# EAGLE library part STM32F103RBT6 (library microcontrollers)
STM32F103RB ARM CortexM-3 MCU, 256-KB Flash, timers, ADC, DAC and communication interfaces, 2.0-3.6 V PatternAgents ST Microelectronics Component Library Source LBR : http://www.patternagents.com Github : https://github.com/patternagents License : http://creativecommons.org/licenses/by-sa/4.0/ (Creative Commons 4.0) THIS SOFTWARE IS PROVIDED BY THE CONTRIBUTORS "AS IS" AND WITHOUT ANY EXPRESS OR IMPLIED WARRANTIES, INCLUDING, BUT NOT LIMITED TO, THE IMPLIED WARRANTIES OF MERCHANTABILITY AND FITNESS FOR A PARTICULAR PURPOSE ARE DISCLAIMED. IN NO EVENT SHALL THE COPYRIGHT OWNER OR CONTRIBUTORS BE LIABLE FOR ANY DIRECT, INDIRECT, INCIDENTAL, SPECIAL, EXEMPLARY, OR CONSEQUENTIAL DAMAGES (INCLUDING, BUT NOT LIMITED TO, PROCUREMENT OF SUBSTITUTE GOODS OR SERVICES; LOSS OF USE, DATA, OR PROFITS; OR BUSINESS INTERRUPTION) HOWEVER CAUSED AND ON ANY THEORY OF LIABILITY, WHETHER IN CONTRACT, STRICT LIABILITY, OR TORT (INCLUDING NEGLIGENCE OR OTHERWISE) ARISING IN ANY WAY OUT OF THE USE OF THIS SOFTWARE, EVEN IF ADVISED OF THE POSSIBILITY OF SUCH DAMAGE.
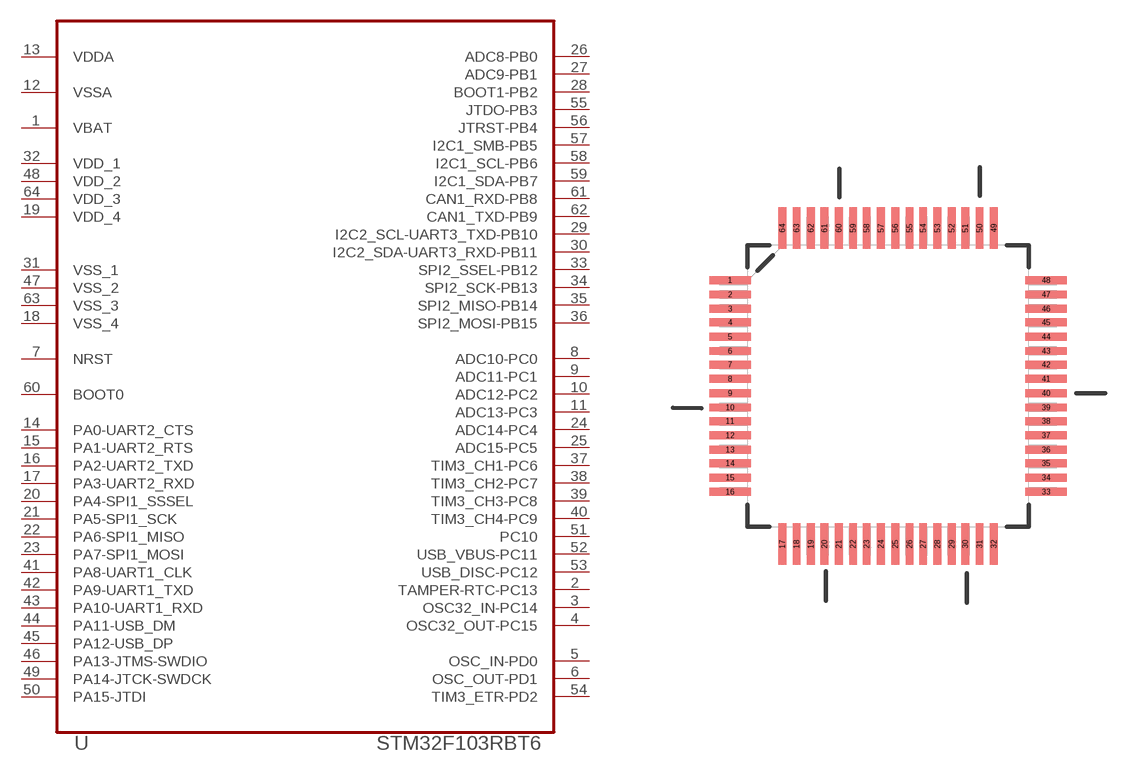
[diagram p5: symbol with the pads of QFP50P1200X1200X160-64N; footprint QFP50P1200X1200X160-64N]

Designator prefix U

## STM32F103RBT6 (MPN: STM32F103RBT6; PACKAGE: LQFP-64; SUPPLIER: STMICROELECTRONICS)  [QFP50P1200X1200X160-64N]
1  VBAT  in
2  TAMPER-RTC-PC13
3  OSC32_IN-PC14
4  OSC32_OUT-PC15
5  OSC_IN-PD0
6  OSC_OUT-PD1
7  NRST
8  ADC10-PC0
9  ADC11-PC1
10  ADC12-PC2
11  ADC13-PC3
12  VSSA  pas
13  VDDA  pwr
14  PA0-UART2_CTS
15  PA1-UART2_RTS
16  PA2-UART2_TXD
17  PA3-UART2_RXD
18  VSS_4  pas
19  VDD_4  pwr
20  PA4-SPI1_SSSEL
21  PA5-SPI1_SCK
22  PA6-SPI1_MISO
23  PA7-SPI1_MOSI
24  ADC14-PC4
25  ADC15-PC5
26  ADC8-PB0
27  ADC9-PB1
28  BOOT1-PB2
29  I2C2_SCL-UART3_TXD-PB10
30  I2C2_SDA-UART3_RXD-PB11
31  VSS_1  pas
32  VDD_1  pwr
33  SPI2_SSEL-PB12
34  SPI2_SCK-PB13
35  SPI2_MISO-PB14
36  SPI2_MOSI-PB15
37  TIM3_CH1-PC6
38  TIM3_CH2-PC7
39  TIM3_CH3-PC8
40  TIM3_CH4-PC9
41  PA8-UART1_CLK
42  PA9-UART1_TXD
43  PA10-UART1_RXD
44  PA11-USB_DM
45  PA12-USB_DP
46  PA13-JTMS-SWDIO
47  VSS_2  pas
48  VDD_2  pwr
49  PA14-JTCK-SWDCK
50  PA15-JTDI
51  PC10
52  USB_VBUS-PC11
53  USB_DISC-PC12
54  TIM3_ETR-PD2
55  JTDO-PB3
56  JTRST-PB4
57  I2C1_SMB-PB5
58  I2C1_SCL-PB6
59  I2C1_SDA-PB7
60  BOOT0  in
61  CAN1_RXD-PB8
62  CAN1_TXD-PB9
63  VSS_3  pas
64  VDD_3  pwr

## Footprint QFP50P1200X1200X160-64N (pad centres in mm)
smd 1.473 x 0.279: 1 -5.613,3.759; 2 -5.613,3.251; 3 -5.613,2.743; 4 -5.613,2.261; 5 -5.613,1.753; 6 -5.613,1.245; 7 -5.613,0.762; 8 -5.613,0.254; 9 -5.613,-0.254; 10 -5.613,-0.762; 11 -5.613,-1.245; 12 -5.613,-1.753; 13 -5.613,-2.261; 14 -5.613,-2.743; 15 -5.613,-3.251; 16 -5.613,-3.759; 33 5.613,-3.759; 34 5.613,-3.251; 35 5.613,-2.743; 36 5.613,-2.261; 37 5.613,-1.753; 38 5.613,-1.245; 39 5.613,-0.762; 40 5.613,-0.254; 41 5.613,0.254; 42 5.613,0.762; 43 5.613,1.245; 44 5.613,1.753; 45 5.613,2.261; 46 5.613,2.743; 47 5.613,3.251; 48 5.613,3.759
smd 0.279 x 1.473: 17 -3.759,-5.613; 18 -3.251,-5.613; 19 -2.743,-5.613; 20 -2.261,-5.613; 21 -1.753,-5.613; 22 -1.245,-5.613; 23 -0.762,-5.613; 24 -0.254,-5.613; 25 0.254,-5.613; 26 0.762,-5.613; 27 1.245,-5.613; 28 1.753,-5.613; 29 2.261,-5.613; 30 2.743,-5.613; 31 3.251,-5.613; 32 3.759,-5.613; 49 3.759,5.613; 50 3.251,5.613; 51 2.743,5.613; 52 2.261,5.613; 53 1.753,5.613; 54 1.245,5.613; 55 0.762,5.613; 56 0.254,5.613; 57 -0.254,5.613; 58 -0.762,5.613; 59 -1.245,5.613; 60 -1.753,5.613; 61 -2.261,5.613; 62 -2.743,5.613; 63 -3.251,5.613; 64 -3.759,5.613